# Altium schematic symbol library Relay-DPDT1.Schlib: 1 symbol
Pins are listed as number, name and electrical type; pins without a type are passive.

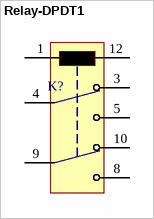
[diagram p0: symbol Relay-DPDT1]

## Relay-DPDT1
designator K?
DPDT Relay
pins: 1, 3, 4, 5, 8, 9, 10, 12